# EAGLE library part WP934SA_LILYLGD (library keves-ng)
LED Circuit Board Indicators 3mm 617/588/568nm LED INDICATOR Source: Datasheet <http://www.kingbrightusa.com/images/catalog/SPEC/WP934SA-LILYLGD.pdf>
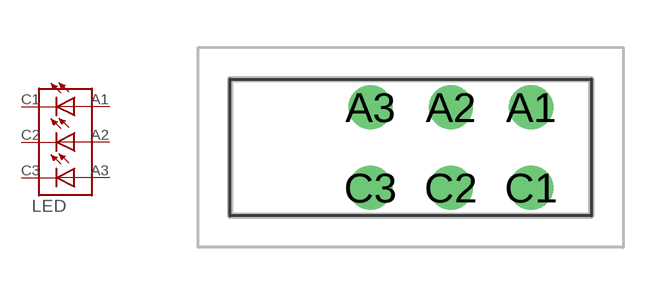
[diagram p0: symbol with the pads of WP934SALILYLGD; footprint WP934SALILYLGD]

Designator prefix LED

## WP934SA_LILYLGDLED  [WP934SALILYLGD]
A1  A_1
A2  A_2
A3  A_3
C1  K_1
C2  K_2
C3  K_3

## Footprint WP934SALILYLGD (pad centres in mm)
WP934SA/LILYLGD-2
drill 0.889 pad 1.4: A1 5.08,2.54; A2 2.54,2.54; A3 0,2.54; C1 5.08,0; C2 2.54,0; C3 0,0